# EAGLE library part A3982 (library allegro_CJ)
DMOS Stepper Motor Driver with Translator Auto generated by make-symbol-device-package-bsdl.ulp Rev. 32 Source: http://www.allegromicro.com/en/Products/Part_Numbers/3982/3982.pdf
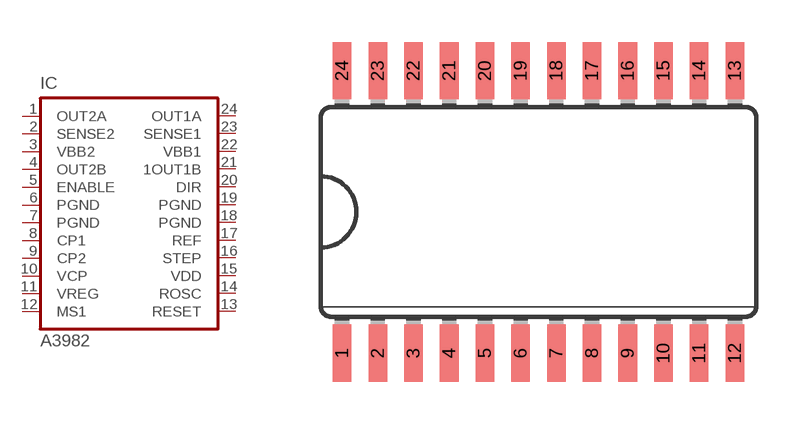
[diagram p10: symbol with the pads of SO24W; footprint SO24W]

Designator prefix IC

## A3982  [SO24W]
1  OUT2A  out
2  SENSE2  in
3  VBB2  pwr
4  OUT2B  out
5  ENABLE  in
6  PGND  pwr
7  PGND  pwr
8  CP1  pas
9  CP2  pas
10  VCP  pas
11  VREG  pas
12  MS1  in
13  RESET  in
14  ROSC  in
15  VDD  pwr
16  STEP  in
17  REF  in
18  PGND  pwr
19  PGND  pwr
20  DIR  in
21  1OUT1B  out
22  VBB1  pwr
23  SENSE1  in
24  OUT1A  out

## Footprint SO24W (pad centres in mm)
Small Outline Package 24 wide
smd 0.66 x 2.032: 1 -6.985,-5.029; 2 -5.715,-5.029; 3 -4.445,-5.029; 4 -3.175,-5.029; 5 -1.905,-5.029; 6 -0.635,-5.029; 7 0.635,-5.029; 8 1.905,-5.029; 9 3.175,-5.029; 10 4.445,-5.029; 11 5.715,-5.029; 12 6.985,-5.029; 13 6.985,5.029; 14 5.715,5.029; 15 4.445,5.029; 16 3.175,5.029; 17 1.905,5.029; 18 0.635,5.029; 19 -0.635,5.029; 20 -1.905,5.029; 21 -3.175,5.029; 22 -4.445,5.029; 23 -5.715,5.029; 24 -6.985,5.029